# Altium schematic symbol library Samsung_KM44C256BP_async_DRAM.SchLib: 1 symbol
Pins are listed as number, name and electrical type; pins without a type are passive.

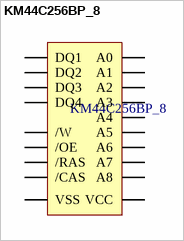
[diagram p0: symbol KM44C256BP_8]

## KM44C256BP_8
designator KM44C256BP_8
Samsung 256K x 4 Bit Asynchronous DRAM
footprint Samsung_KM44C256BP_async_DRAM (Samsung 256K x 4 Asynchronous DRAM)
pins: /CAS, /OE, /RAS, /W, A0, A1, A2, A3, A4, A5, A6, A7, A8, DQ1, DQ2, DQ3, DQ4, VCC, VSS